# EAGLE library part 102E- (library hv_inductor)
FILTER dual helix bandpass filter, type E
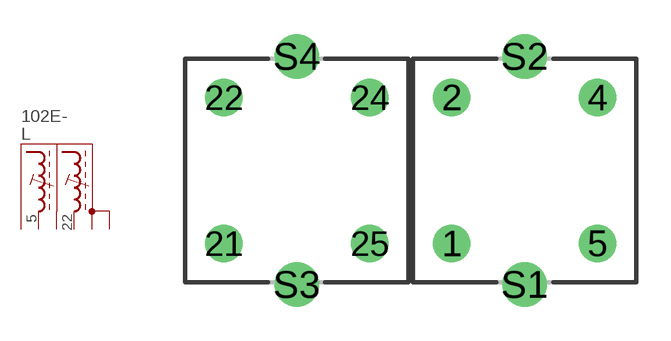
[diagram p16: symbol with the pads of H102E; footprint H102E]

Designator prefix L

## 102E-5-22 (OC_FARNELL: unknown; OC_NEWARK: unknown)  [H102E]
5  IN  pas
22  OUT  pas
S1  S1  pas
S2  S2  pas
S3  S3  pas
S4  S4  pas

## 102E-4-24 (OC_FARNELL: unknown; OC_NEWARK: unknown)  [H102E]
4  IN  pas
22  OUT  pas
S1  S1  pas
S2  S2  pas
S3  S3  pas
S4  S4  pas

## 102E-4-21 (OC_FARNELL: unknown; OC_NEWARK: unknown)  [H102E]
4  IN  pas
21  OUT  pas
S1  S1  pas
S2  S2  pas
S3  S3  pas
S4  S4  pas

## Footprint H102E (pad centres in mm)
DUAL RF COIL ASSEMBLY 10.1, 4 pads, grid 2.5, 10 x 10 x 15 mm
drill 1.1: 1 1.8,-3.2; 2 1.8,3.2; 4 8.2,3.2; 5 8.2,-3.2; 21 -8.2,-3.2; 22 -8.2,3.2; 24 -1.8,3.2; 25 -1.8,-3.2
drill 1.3: S1 5,-5; S2 5,5; S3 -5,-5; S4 -5,5